# Altium schematic symbol library RES,47k5,1%,0.1W,0603.Schlib: 1 symbol
Pins are listed as number, name and electrical type; pins without a type are passive.

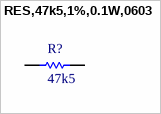
[diagram p0: symbol RES,47k5,1%,0.1W,0603]

## RES,47k5,1%,0.1W,0603
designator R?, comment 47k5
47.5 ±1% 0.1W, 1/10W Chip Resistor 0603 (1608 Metric) - Thin Film
pins: 1, 2